# EAGLE library part DS2Y-SL2-DC* (library relay)
MINIATURE RELAY NAiS Source: http://www.mew-europe.com/.. en_ds_61005_0023.pdf
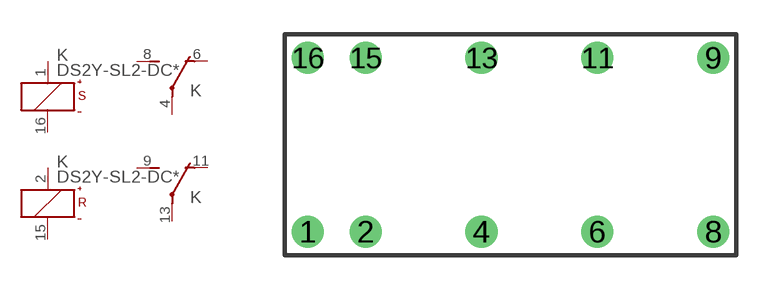
[diagram p48: symbol with the pads of DS2Y-2; footprint DS2Y-2]

Designator prefix K; gates 1=U 2=U S=K+-S R=K+-R

## DS2Y-SL2-DC1.5V (MPN: DS2Y-SL2-DC1.5V; OC_FARNELL: unknown; OC_NEWARK: 10C5841), DS2Y-SL2-DC12V (MF: AROMAT/ MATSUSHITA; MPN: DS2Y-SL2-DC12V; OC_FARNELL: unknown; OC_NEWARK: 52F9208), DS2Y-SL2-DC24V (MPN: DS2Y-SL2-DC24V; OC_FARNELL: 1372981; OC_NEWARK: 64K3125), DS2Y-SL2-DC3V (MPN: DS2Y-SL2-DC3V; OC_FARNELL: unknown; OC_NEWARK: 91B6712), DS2Y-SL2-DC48V (MPN: DS2Y-SL2-DC48V; OC_FARNELL: unknown; OC_NEWARK: 10C5844), DS2Y-SL2-DC5V (MF: AROMAT/ MATSUSHITA; MPN: DS2Y-SL2-DC5V; OC_FARNELL: unknown; OC_NEWARK: 93F4484), DS2Y-SL2-DC6V (MPN: DS2Y-SL2-DC6V; OC_FARNELL: unknown; OC_NEWARK: 99F8886), DS2Y-SL2-DC9V (MPN: DS2Y-SL2-DC9V; OC_FARNELL: unknown; OC_NEWARK: 10C5848)  [DS2Y-2]
1  S:+  pas
2  R:+  pas
4  1:P  pas
6  1:O  pas
8  1:S  pas
9  2:S  pas
11  2:O  pas
13  2:P  pas
15  R:-  pas
16  S:-  pas

## Footprint DS2Y-2 (pad centres in mm)
MINIATURE RELAY NAiS Source: http://www.mew-europe.com/.. en_ds_61005_0023.pdf
drill 0.9: 1 -8.89,-3.81; 2 -6.35,-3.81; 4 -1.27,-3.81; 6 3.81,-3.81; 8 8.89,-3.81; 9 8.89,3.81; 11 3.81,3.81; 13 -1.27,3.81; 15 -6.35,3.81; 16 -8.89,3.81